# EAGLE library part CONNECTOR-10 (library HyTechDevices - Copy)
10 Pin Connector
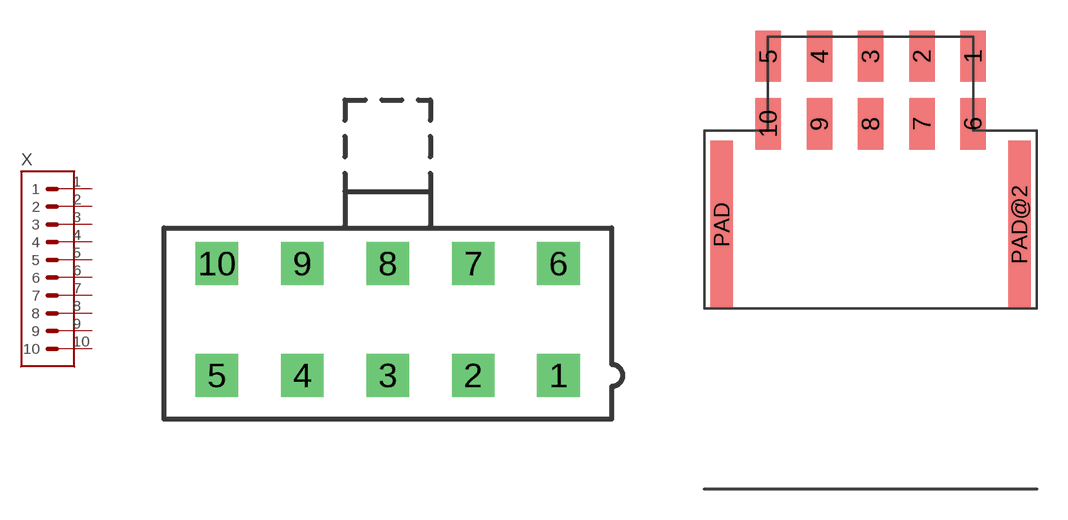
[diagram p3: symbol with the pads of MOLEX_MINIFIT_PTH_10; footprints MOLEX_MINIFIT_PTH_10, MOLEX_NANOFIT_SMD_RIGHTANGLE_10]

Designator prefix X

## CONNECTOR-10 (OC_FARNELL: unknown; OC_NEWARK: unknown)  [MOLEX_MINIFIT_PTH_10]
1  1  pas
2  2  pas
3  3  pas
4  4  pas
5  5  pas
6  6  pas
7  7  pas
8  8  pas
9  9  pas
10  10  pas

## CONNECTOR-10NANO-FIT_RIGHT_ANGLE-SURFACE  [MOLEX_NANOFIT_SMD_RIGHTANGLE_10]
Pads as for MOLEX_MINIFIT_PTH_10

## CONNECTOR-10NANO-FIT_VERTICAL-10  [MOLEX_NANOFIT_PTH_10]
Pads as for MOLEX_MINIFIT_PTH_10

## Footprint MOLEX_MINIFIT_PTH_10 (pad centres in mm)
10 Pin Mini-Fit Vertical Header, Through Hole, Dual Row Part <https://www.molex.com/molex/products/part-detail/pcb_headers/0039288100> Footprint <https://www.molex.com/pdm_docs/sd/0039288100_sd.pdf>
drill 1.4 square: 1 8.4,-2.75; 2 4.2,-2.75; 3 0,-2.75; 4 -4.2,-2.75; 5 -8.4,-2.75; 6 8.4,2.75; 7 4.2,2.75; 8 0,2.75; 9 -4.2,2.75; 10 -8.4,2.75

## Footprint MOLEX_NANOFIT_SMD_RIGHTANGLE_10 (pad centres in mm)
10 Pin Nano-Fit Vertical Header, PCB Mount, Dual Row Part <https://www.molex.com/molex/products/part-detail/pcb_headers/1054051210> Footprint <https://www.molex.com/pdm_docs/sd/1054051210_sd.pdf>
smd 1.24 x 2.5: 1 5,1.65; 2 2.5,1.65; 3 0,1.65; 4 -2.5,1.65; 5 -5,1.65; 6 5,-1.65; 7 2.5,-1.65; 8 0,-1.65; 9 -2.5,-1.65; 10 -5,-1.65
smd 1.1 x 8.2: PAD -7.27,-6.58; PAD@2 7.27,-6.58

## Footprint MOLEX_NANOFIT_PTH_10 (pad centres in mm)
10 Pin Nano-Fit™ Vertical Header, Through Hole, Dual Row Part <https://www.molex.com/molex/products/part-detail/pcb_headers/1053101210> Footprint <https://www.molex.com/pdm_docs/sd/1053101210_sd.pdf>
drill 1.2: 1 5,0; 2 2.5,0; 3 0,0; 4 -2.5,0; 5 -5,0; 6 5,-2.5; 7 2.5,-2.5; 8 0,-2.5; 9 -2.5,-2.5; 10 -5,-2.5
hole 1.3 at 1.27,1.34